# EAGLE library part MCP6542-E/MS (library 029000100  -  gKEagleLibrary)
IC COMP 1.6V DUAL P-P,MSOP-8
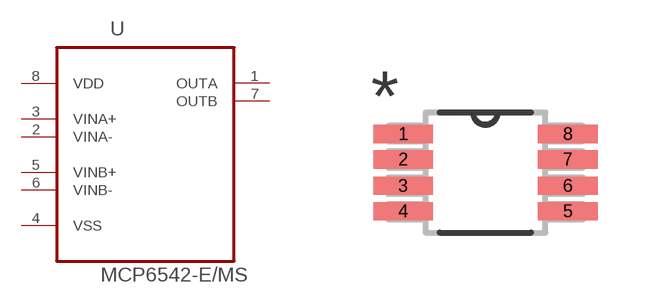
[diagram p37: symbol with the pads of SOP65P490X110-8N; footprint SOP65P490X110-8N]

Designator prefix U

## MCP6542-E/MS (MPN: MCP6542-E/MS; OC_FARNELL: 1852110; OC_NEWARK: 71J5321; PACKAGE: MSOP-8; SUPPLIER: Microchip)  [SOP65P490X110-8N]
1  OUTA  out
2  VINA-  in
3  VINA+  in
4  VSS  pwr
5  VINB+  in
6  VINB-  in
7  OUTB  out
8  VDD  pwr

## Footprint SOP65P490X110-8N (pad centres in mm)
smd 1.499 x 0.457: 1 -2.057,0.965; 2 -2.057,0.33; 3 -2.057,-0.33; 4 -2.057,-0.965; 5 2.057,-0.965; 6 2.057,-0.33; 7 2.057,0.33; 8 2.057,0.965